# Altium schematic symbol library sparkroad_ex_20x2.SchLib: 1 symbol
Pins are listed as number, name and electrical type; pins without a type are passive.

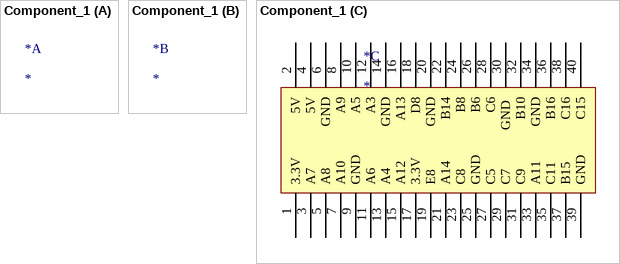
[diagram p0: symbol Component_1]

## Component_1
designator *
part C pins: 1 3.3V, 2 5V, 3 A7, 4 5V, 5 A8, 6 GND, 7 A10, 8 A9, 9 GND, 10 A5, 11 A6, 12 A3, 13 A4, 14 GND, 15 A12, 16 A13, 17 3.3V , 18 D8, 19 E8, 20 GND, 21 A14, 22 B14, 23 C8, 24 B8, 25 GND, 26 B6, 27 C5, 28 C6, 29 C7, 30 GND , 31 C9, 32 B10, 33 A11, 34 GND, 35 C11, 36 B16, 37 B15, 38 C16, 39 GND, 40 C15